# Altium footprint library ECB02蓝牙模块封装库.PcbLib: 23 footprints (part 2 of 2)
Each footprint in its own frame and in the unit in brackets; x right, y up, seen from the top. Pads: shape width x height; smd on the part's side, far side on the other; paste and mask are expansions set on the pad; w line width, h text height; cw(c..) or ccw(c..) is an arc to the next point about the centre after c.
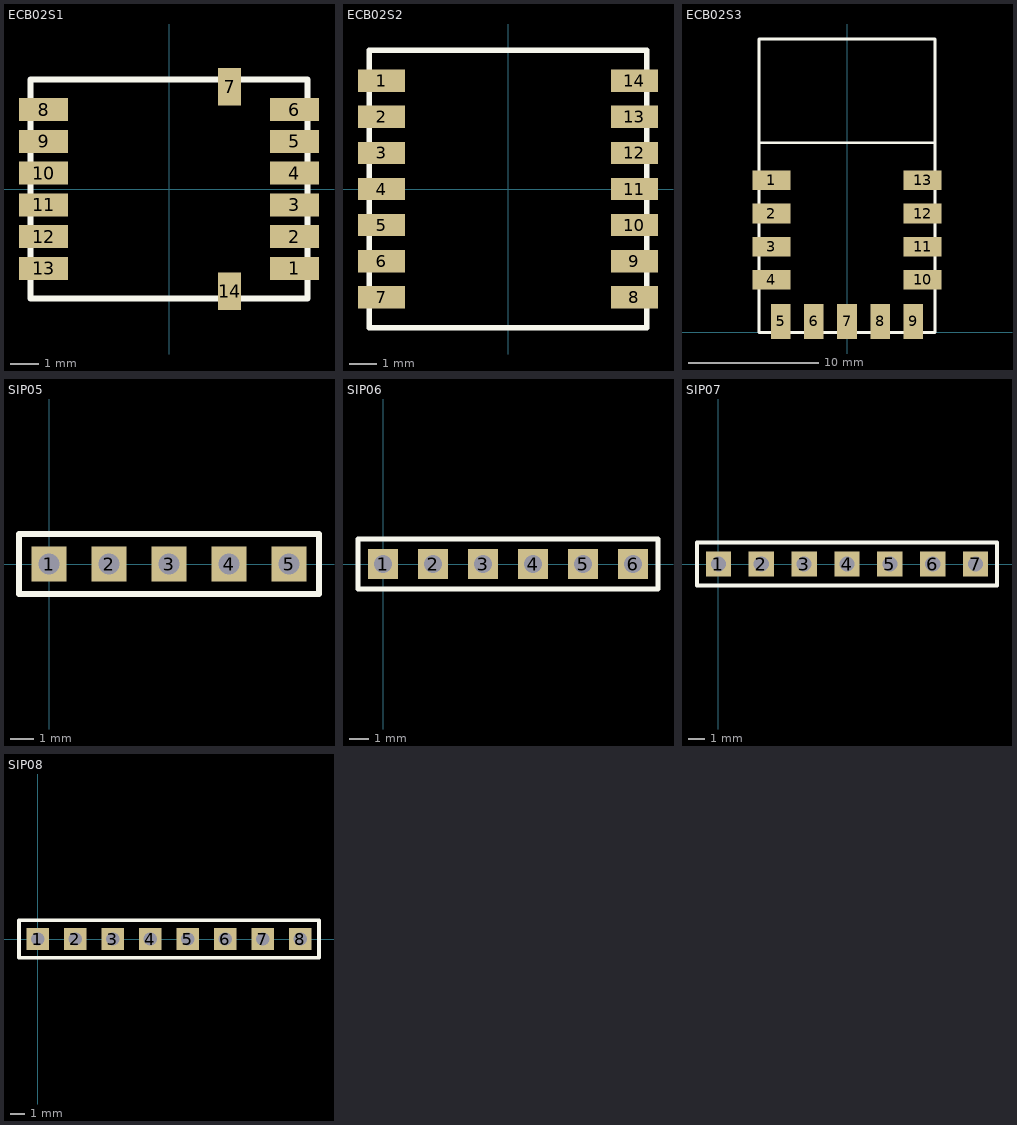
[diagram p1: the footprints below, top view; thin cyan lines are the x and y axes]

## ECB02S1 [mm]
pads (14):
  rect 1.7x0.8 smd: 1(4.35,-2.75) 2(4.35,-1.65) 3(4.35,-0.55) 4(4.35,0.55) 5(4.35,1.65) 6(4.35,2.75) 8(-4.35,2.75) 9(-4.35,1.65) 10(-4.35,0.55) 11(-4.35,-0.55) 12(-4.35,-1.65) 13(-4.35,-2.75)
  rect 0.8x1.3 smd: 7(2.1,3.55) 14(2.1,-3.55)
Top Overlay:
  lines w0.2: -4.8,-3.8 4.8,-3.8 4.8,3.8 -4.8,3.8 -4.8,-3.8

## ECB02S2 [mm]
pads (14):
  rect 1.7x0.8 smd: 1(-4.55,3.9) 2(-4.55,2.6) 3(-4.55,1.3) 4(-4.55,0) 5(-4.55,-1.3) 6(-4.55,-2.6) 7(-4.55,-3.9) 8(4.55,-3.9) 9(4.55,-2.6) 10(4.55,-1.3) 11(4.55,0) 12(4.55,1.3) 13(4.55,2.6) 14(4.55,3.9)
Top Overlay:
  lines w0.2: -5,-5 5,-5 5,5 -5,5 -5,-5

## ECB02S3 [mm]
pads (13):
  rect 2.9x1.5 smd: 1(-5.8,11.66) 2(-5.8,9.12) 3(-5.8,6.58) 4(-5.8,4.04) 10(5.8,4.04) 11(5.8,6.58) 12(5.8,9.12) 13(5.8,11.66)
  rect 1.5x2.7 smd: 5(-5.08,0.85) 6(-2.54,0.85) 7(0,0.85) 8(2.54,0.85) 9(5.08,0.85)
Top Layer:
  lines w0.254: -5.08,11.66 -5.07,11.66
Top Overlay:
  lines w0.2: -6.75,14.55 6.75,14.55 ; -6.75,0 -6.75,22.5 6.75,22.5 6.75,0 -6.75,0

## SIP05 [mm]
pads (5):
  rect 1.5x1.5 hole 0.9: 1(0,0) 2(2.54,0) 3(5.08,0) 4(7.62,0) 5(10.16,0)
Top Overlay:
  lines w0.25: -1.27,-1.27 11.43,-1.27 11.43,1.27 -1.27,1.27 -1.27,-1.27

## SIP06 [mm]
pads (6):
  rect 1.5x1.5 hole 0.9: 1(0,0) 2(2.54,0) 3(5.08,0) 4(7.62,0) 5(10.16,0) 6(12.7,0)
Top Overlay:
  lines w0.25: -1.27,-1.27 -1.27,1.27 13.97,1.27 13.97,-1.27 -1.27,-1.27

## SIP07 [mm]
pads (7):
  rect 1.5x1.5 hole 0.9: 1(0,0) 2(2.54,0) 3(5.08,0) 4(7.62,0) 5(10.16,0) 6(12.7,0) 7(15.24,0)
Top Overlay:
  lines w0.25: -1.27,-1.27 16.51,-1.27 16.51,1.27 -1.27,1.27 -1.27,-1.27

## SIP08 [mm]
pads (8):
  rect 1.5x1.5 hole 0.9: 1(0,0) 2(2.54,0) 3(5.08,0) 4(7.62,0) 5(10.16,0) 6(12.7,0) 7(15.24,0) 8(17.78,0)
Top Overlay:
  lines w0.25: -1.27,-1.27 -1.27,1.27 19.05,1.27 19.05,-1.27 -1.27,-1.27